# EAGLE library part HMC5883 (library elem)
Package just for schematics. Do not use for board.
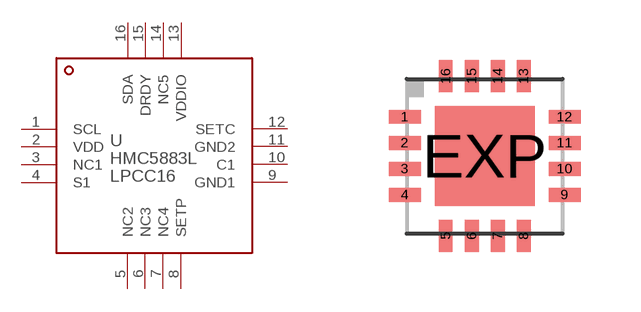
[diagram p2: symbol with the pads of QFN16-4X4; footprint QFN16-4X4]

Designator prefix -

## HMC5883  [QFN16-4X4]
1  SCL  in
2  VDD  pwr
3  NC1  nc
4  S1
5  NC2  nc
6  NC3  nc
7  NC4  nc
8  SETP
9  GND1  pwr
10  C1
11  GND2  pwr
12  SETC
13  VDDIO  pwr
14  NC5  nc
15  DRDY  out
16  SDA

## Footprint QFN16-4X4 (pad centres in mm)
16-Lead Plastic Quad Flat, No Lead Package (ML) - 4x4x0.9mm Body [QFN] Source: http://ww1.microchip.com/downloads/en/DeviceDoc/41203E.pdf
smd 0.8 x 0.35: 1 -2,0.975; 2 -2,0.325; 3 -2,-0.325; 4 -2,-0.975; 9 2,-0.975; 10 2,-0.325; 11 2,0.325; 12 2,0.975
smd 0.35 x 0.8: 5 -0.975,-2; 6 -0.325,-2; 7 0.325,-2; 8 0.975,-2; 13 0.975,2; 14 0.325,2; 15 -0.325,2; 16 -0.975,2
smd 2.5 x 2.5: EXP 0,0